# Altium integrated library USB3090-XX-X_REVE.IntLib: 1 symbol
Pins are listed as number, name and electrical type; pins without a type are passive.

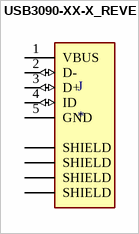
[diagram p0: symbol USB3090-XX-X_REVE]

## USB3090-XX-X_REVE
designator J
USB - micro AB USB 2.0 Receptacle Connector 5 Position Surface Mount, Right Angle; Through Hole; MP: USB3090-30-A; MF: Global Connector Technology; SnapEDA_Link: https://www.snapeda.com/parts/USB3090-30-A/Global%20Connector%20Technology/view-part/281875/?ref=snap; Price: None; Availability: Unavailable; Value: *; Package: None
footprint GCT_USB3090-XX-X_REVE
pins: 1 VBUS (power), 2 D- (io), 3 D+ (io), 4 ID (io), 5 GND (power), 6 SHIELD (power), 7 SHIELD (power), 8 SHIELD (power), 9 SHIELD (power)